# Altium schematic symbol library FiberOptic_SCH.SchLib: 19 symbols
Pins are listed as number, name and electrical type; pins without a type are passive.

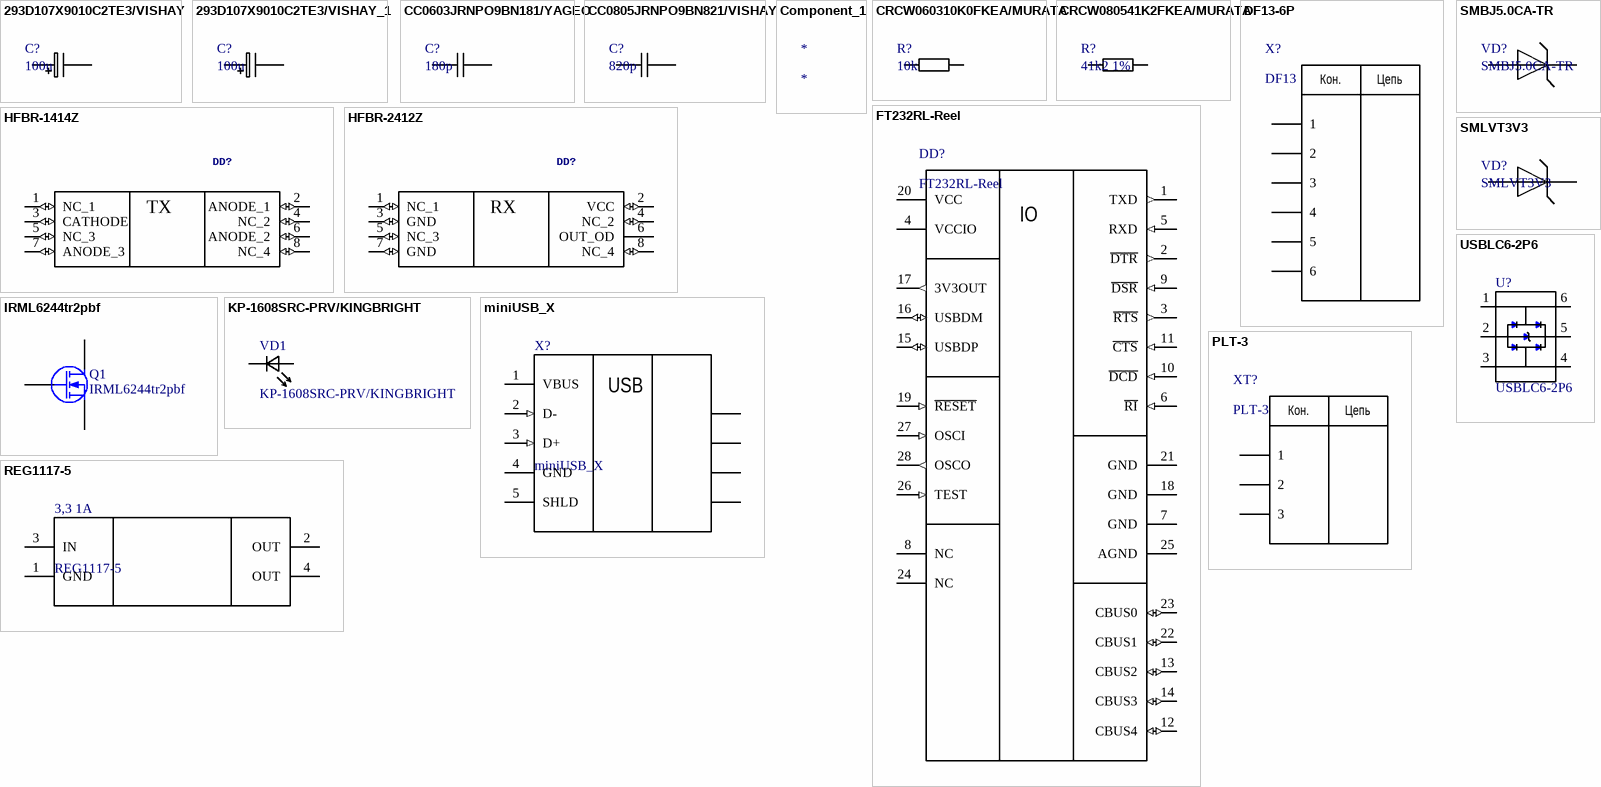
[diagram p0: symbols 293D107X9010C2TE3/VISHAY to USBLC6-2P6]

## 293D107X9010C2TE3/VISHAY
designator C?, comment 100u
100u 10V tantalum cap
footprint VISHAY-TANTALUM-CAP-TYPE-C/VISHAY
pins: 1, 2

## 293D107X9010C2TE3/VISHAY_1
designator C?, comment 100u
100u 10V tantalum cap
footprint VISHAY-TANTALUM-CAP-TYPE-C/VISHAY
pins: 1, 2

## CC0603JRNPO9BN181/YAGEO
designator C?, comment 180p
180p 50V 0603 cap
footprint SMT0603CAP/VISHAY
pins: 1, 2

## CC0805JRNPO9BN821/VISHAY
designator C?, comment 820p
820p 50V 0805 cap NP0
footprint SMT0805CAP/YAGEO
pins: 1, 2

## Component_1
designator *

## CRCW060310K0FKEA/MURATA
designator R?, comment 10k
footprint SMT0603/VISHAY
pins: 1, 2

## CRCW080541K2FKEA/MURATA
designator R?, comment 41k2 1%
41k2
footprint SMT0805/YAGEO
pins: 1, 2

## DF13-6P
designator X?, comment DF13
footprint HIROSE DF13-6P-1.25H (DF13 Series 1.25mm pitch miniature crimping connector single row)
pins: 1, 2, 3, 4, 5, 6
text: Кон.; Цепь

## FT232RL-Reel
designator DD?
USB UART Asynchronous Serial Data Transfer Chip, 28-pin SSOP, Tape and Reel; Manufacturer: FTDI; DatasheetVersion: ver 2.10, Mar-2012; PackageVersion: Mar-12; PackageReference: SSOP-28; PackageDescription: 28-Pin Small Outline Package 0.65 mm Pitch; PartNumber: FT232RL-Reel; ComponentLink1Description: Manufacturer URL; ComponentLink1URL: http://www.ftdichip.com/; ComponentLink2Description: Datasheet; ComponentLink2URL: http://www.ftdichip.com/Support/Documents/DataSheets/ICs/DS_FT232R.pdf
footprint SSOP-28_N (SOP, 28-Leads, Body 10.2x5.3mm, Pitch 0.65mm, IPC Medium Density)
footprint SSOP-28_L (SOP, 28-Leads, Body 10.2x5.3mm, Pitch 0.65mm, IPC High Density)
footprint SSOP-28_M (SOP, 28-Leads, Body 10.2x5.3mm, Pitch 0.65mm, IPC Low Density)
pins: 1 TXD (out), 2 ~{DTR} (out), 3 ~{RTS} (out), 4 VCCIO (power), 5 RXD (in), 6 ~{RI} (in), 7 GND (power), 8 NC, 9 ~{DSR} (in), 10 ~{DCD} (in), 11 ~{CTS} (in), 12 CBUS4 (io), 13 CBUS2 (io), 14 CBUS3 (io), 15 USBDP (io), 16 USBDM (io), 17 3V3OUT (out), 18 GND (power), 19 ~{RESET} (in), 20 VCC (power), 21 GND (power), 22 CBUS1 (io), 23 CBUS0 (io), 24 NC, 25 AGND (power), 26 TEST (in), 27 OSCI (in), 28 OSCO (out)
text: IO

## HFBR-1414Z
designator DD?
Manufacturer_Name: Avago Technologies; GateName_1: G$1; SymbolName_1: HFBR-1414Z; LibraryName: HFBR-1414Z; DeviceSetName: HFBR-1414Z; Package: HFBR2416Z; Manufacturer_Part_Number: HFBR-1414Z; RS_Part_Number: 4965692; RS_Price-Stock: http://uk.rs-online.com/web/p/products/4965692; Arrow_Part_Number: HFBR-1414Z; Arrow_Price-Stock: http://uk.rs-online.com/web/p/products/4965692; Height: mm
footprint HFBR1414Z
pins: 1 NC_1 (io), 2 ANODE_1 (io), 3 CATHODE (io), 4 NC_2 (io), 5 NC_3 (io), 6 ANODE_2 (io), 7 ANODE_3 (io), 8 NC_4 (io)
text: TX

## HFBR-2412Z
designator DD?
Manufacturer_Name: Avago Technologies; GateName_1: G$1; SymbolName_1: HFBR-1414Z; LibraryName: HFBR-1414Z; DeviceSetName: HFBR-1414Z; Package: HFBR2416Z; Manufacturer_Part_Number: HFBR-1414Z; RS_Part_Number: 4965692; RS_Price-Stock: http://uk.rs-online.com/web/p/products/4965692; Arrow_Part_Number: HFBR-1414Z; Arrow_Price-Stock: http://uk.rs-online.com/web/p/products/4965692; Height: mm
footprint HFBR2412Z
pins: 1 NC_1 (io), 2 VCC (io), 3 GND (io), 4 NC_2 (io), 5 NC_3 (io), 6 OUT_OD (oc), 7 GND (io), 8 NC_4 (io)
text: RX

## IRML6244tr2pbf
designator Q1
N-Channel MOSFET; Published: 8-Jun-2000; LatestRevisionDate: 17-Jul-2002; LatestRevisionNote: Re-released for DXP Platform.; PackageVersion: 1995/1996; PackageReference: E3; Publisher: Altium Limited; PackageDescription: TO, Flat Index; 3 In-Line, Axial Leads; Body Dia. 4.6mm; Lead Dia. 0.5 mm (max)
footprint SOT23_N (SOT23, 3-Leads, Body 2.9x1.3mm, Pitch 0.95mm, Lead Span 2.3mm, IPC Medium Density); pin to pad 1>3 2>1 3>2
simulation model NMOS (MOSFET-N)
pins: 1 D, 2 G, 3 S

## KP-1608SRC-PRV/KINGBRIGHT
designator VD1
Red 0603 LED; PackageReference: 0603
footprint 1.6x0.8SMTLED/KINGBRIGHT
pins: 1, 2

## miniUSB_X
designator X?
USB 2.0, Right Angle, SMT, A Type, Receptacle, 5 Position, Black; ContactMaterial: Phosphor Bronze; ContactPlating: Gold (30) over Nickel; PCB_Layout: Complies with manufacturer's recommendation.; DrillSize: Corresponds to nominal value.; PanelGround: Without; Published: 15-Jul-2004; DatasheetDocument: 15-Nov-2002; PackageDocument: 15-Nov-2002; PackageReference: 440478; Publisher: Altium Limited; HousingMaterial: Thermoplastic; ComponentLink1Description: Manufacturer Link; ComponentLink1URL: http://www.tycoelectronics.com/; ComponentLink2Description: Packaging Specification; ComponentLink2URL: http://ecommas.tycoelectronics.com/commerce/DocumentDelivery/DDEController?Action=showdoc&DocId=Customer+Drawing%7F440478%7FB%7Fpdf%7FEnglish%7FC_440478_B.pdf
signal-integrity model USB2.0
footprint miniUSB_AB (Connector; USB2.0, Type AB, SM; 5 Position; Right Angle)
pins: 1 VBUS (power) "Power", 2 D- (in) "-DATA", 3 D+ (in) "+DATA", 4 GND (power) "Ground", 5 SHLD "Shield", 6 SHLD "Shield", 7 SHLD "Shield", 8 SHLD "Shield", 9 SHLD "Shield"
text: USB

## PLT-3
designator XT?
footprint PLT-3T
pins: 1, 2, 3
text: Кон.; Цепь

## REG1117-5
designator 3,3 1A
800mA and 1A Low Dropout Positive Regulator 2.85V, 3.3V, 5V, and Adjustable; Published: 8-Jun-2000; LatestRevisionDate: 17-Jul-2002; LatestRevisionNote: Re-released for DXP Platform.; DatasheetVersion: Sep-1997; PackageVersion: revC; PackageReference: ZZ311; Publisher: Altium Limited; PackageDescription: SOT-223/SC-73; 4 Leads; Body 6.7 x 7.3 mm, inc. leads (LxW max); ComponentLink1Description: Manufacturer Link; ComponentLink1URL: http://www.ti.com/; ComponentLink2Description: Datasheet; ComponentLink2URL: http://www-s.ti.com/sc/ds/REG1117.pdf
footprint ZZ311 (SOT-223/SC-73; 4 Leads; Body 6.7 x 7.3 mm, inc. leads (LxW max))
pins: 1 GND (power), 2 OUT (power), 3 IN (power), 4 OUT (power)

## SMBJ5.0CA-TR
designator VD?
footprint DO214AA SMB (Molded Diode, 2-Leads, Body 4.31x3.62mm, IPC Medium Density)
pins: 1, 3 2

## SMLVT3V3
designator VD?
footprint DO214AA SMB (Molded Diode, 2-Leads, Body 4.31x3.62mm, IPC Medium Density)
pins: 1, 3 2

## USBLC6-2P6
designator U?
USBLC6 Series 2 Line 6 V SMT Bi Directional ESD Protection - SOT-666; MF: STMicroelectronics; Package: SOT-563 STMicroelectronics; MP: USBLC6-2P6; Price: None; Availability: Unavailable; SnapEDA_Link: https://www.snapeda.com/parts/USBLC6-2P6/STMicroelectronics/view-part/?ref=snap; Value: *
footprint SOT50P160X60-6N
pins: 1 I/O1_1 (io), 2 GND (power), 3 I/O2_1 (io), 4 I/O2_2 (io), 5 VBUS (power), 6 I/O1_2 (io)